# Altium schematic symbol library SCH - DRIVER - ITS724G.SCHLIB: 1 symbol
Pins are listed as number, name and electrical type; pins without a type are passive.

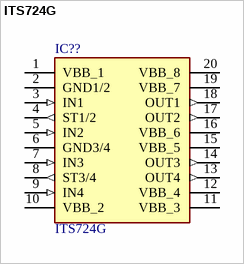
[diagram p0: symbol ITS724G]

## ITS724G
designator IC??
Integrated Circuit
pins: 1 VBB_1 (power), 2 GND1/2 (power), 3 IN1 (in), 4 ST1/2 (out), 5 IN2 (in), 6 GND3/4 (power), 7 IN3 (in), 8 ST3/4 (out), 9 IN4 (in), 10 VBB_2 (power), 11 VBB_3 (power), 12 VBB_4 (power), 13 OUT4 (out), 14 OUT3 (out), 15 VBB_5 (power), 16 VBB_6 (power), 17 OUT2 (out), 18 OUT1 (out), 19 VBB_7 (power), 20 VBB_8 (power)